# Altium schematic symbol library Connector.SchLib: 400 symbols (part 3 of 5)
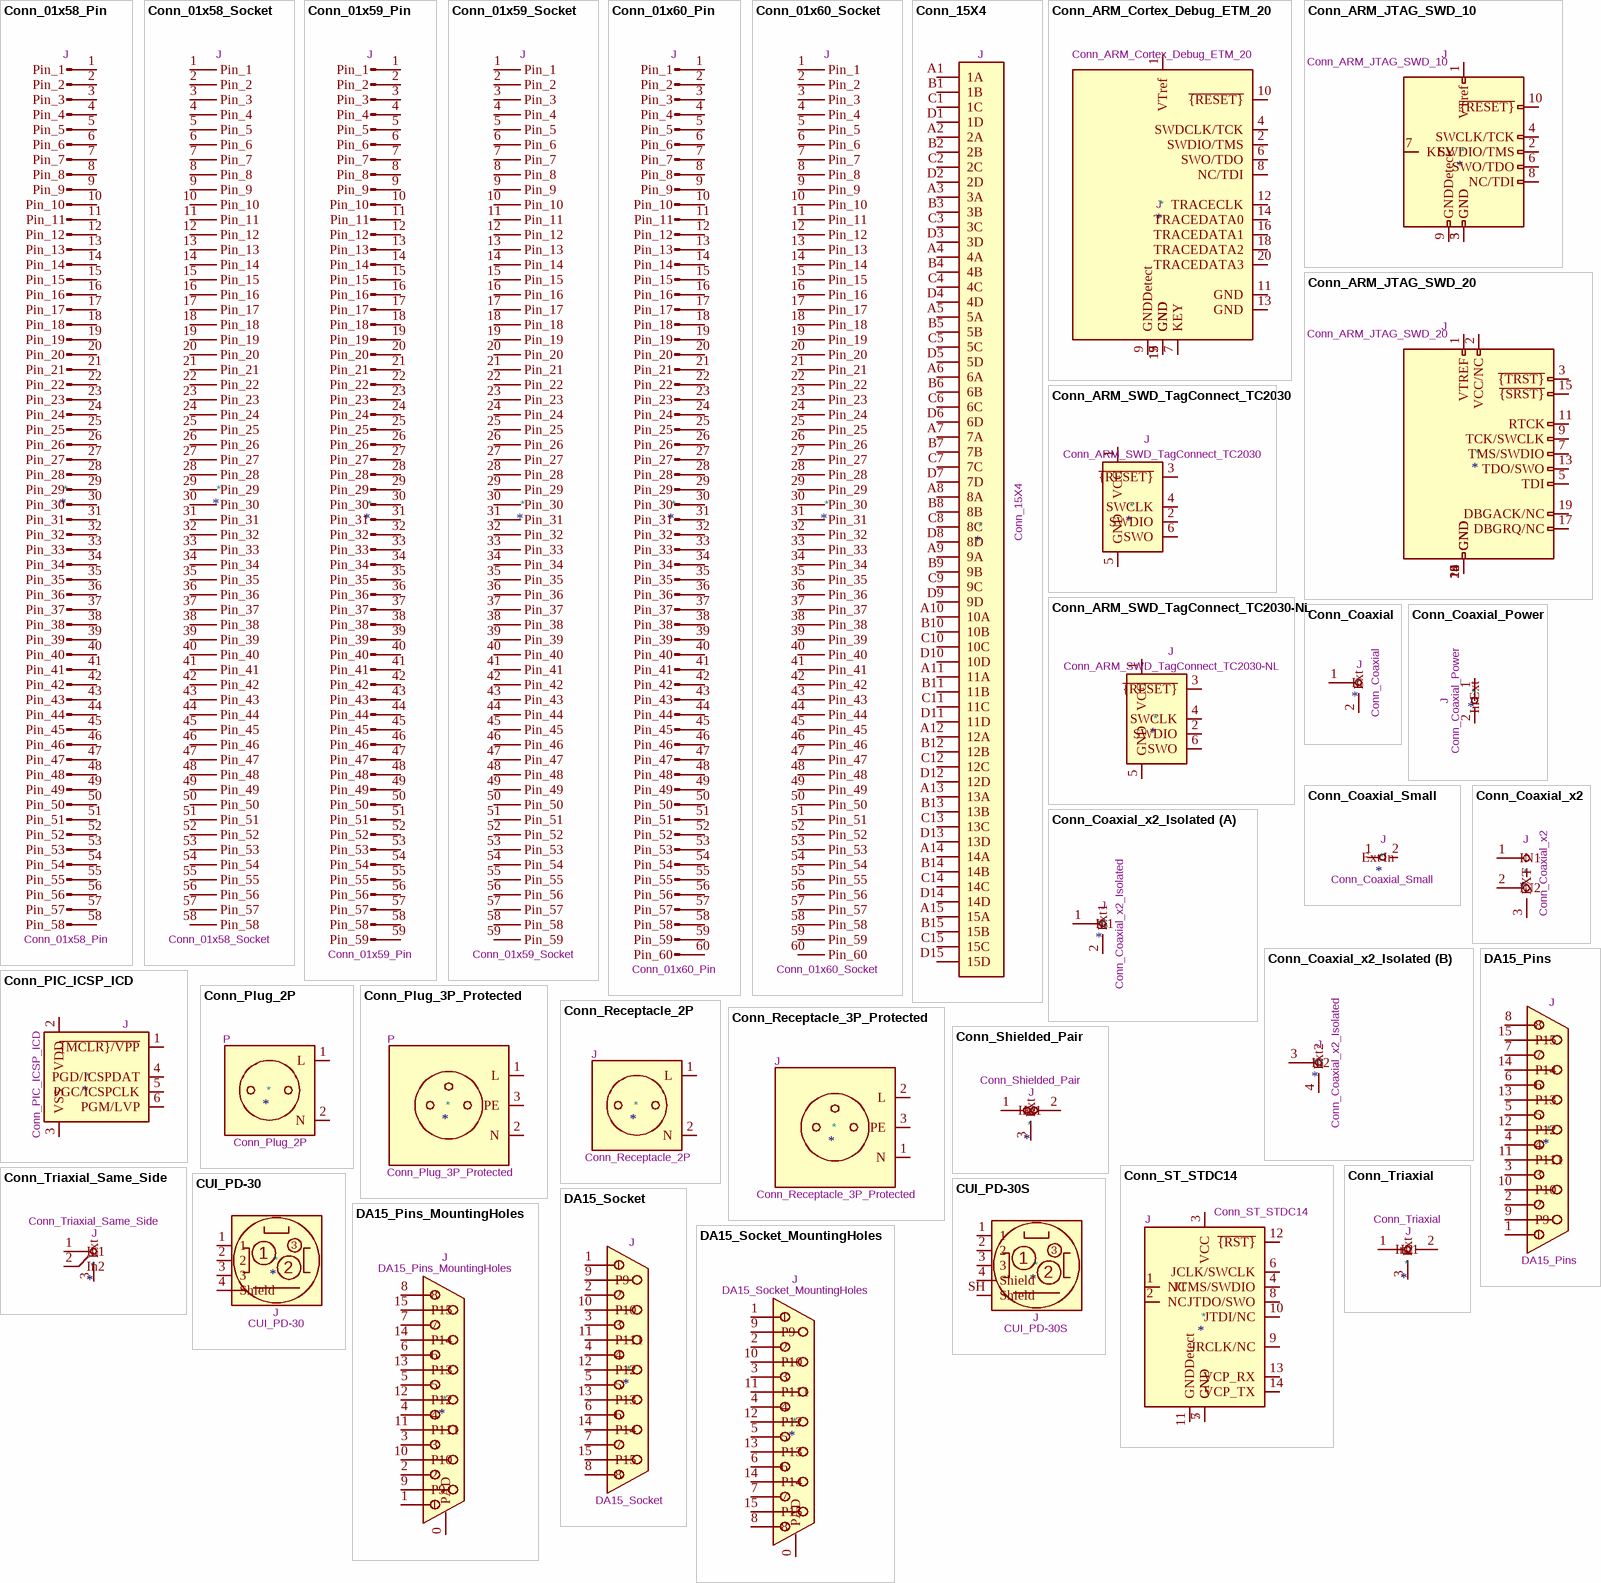
[diagram p19: symbols Conn_01x58_Pin to DA15_Socket_MountingHoles]

## Conn_ARM_JTAG_SWD_10
designator *  value Conn_ARM_JTAG_SWD_10  Reference: J
Cortex Debug Connector, standard ARM Cortex-M SWD and JTAG interface; ki_keywords: Cortex Debug Connector ARM SWD JTAG; ki_fp_filters: PinHeader?2x05?P1.27mm*; Datasheet: http://infocenter.arm.com/help/topic/com.arm.doc.ddi0314h/DDI0314H_coresight_components_trm.pdf; Description_: Cortex Debug Connector, standard ARM Cortex-M SWD and JTAG interface
pins: 1 VTref, 2 SWDIO/TMS, 3 GND, 4 SWCLK/TCK, 5 GND, 6 SWO/TDO, 7 KEY, 8 NC/TDI, 9 GNDDetect, 10 ~{{RESET}}

## Conn_ARM_JTAG_SWD_20
designator *  value Conn_ARM_JTAG_SWD_20  Reference: J
Standard IDC20 Pinheader Connector, ARM legacy JTAG and SWD interface; ki_keywords: IDC20 Pinheader Pins Connector ARM JTAG SWD; ki_fp_filters: IDC*Header*P2.54mm* PinHeader*2x10*P2.54mm*; Datasheet: http://infocenter.arm.com/help/topic/com.arm.doc.dui0499b/DUI0499B_system_design_reference.pdf; Description_: Standard IDC20 Pinheader Connector, ARM legacy JTAG and SWD interface
pins: 1 VTREF, 2 VCC/NC, 3 ~{{TRST}}, 4 GND, 5 TDI, 6 GND, 7 TMS/SWDIO, 8 GND, 9 TCK/SWCLK, 10 GND, 11 RTCK, 12 GND, 13 TDO/SWO, 14 GND, 15 ~{{SRST}}, 16 GND, 17 DBGRQ/NC, 18 GND, 19 DBGACK/NC, 20 GND

## Conn_ARM_SWD_TagConnect_TC2030
designator *  value Conn_ARM_SWD_TagConnect_TC2030  Reference: J
Tag-Connect ARM Cortex SWD JTAG connector, 6 pin; ki_keywords: Cortex Debug Connector ARM SWD JTAG; ki_fp_filters: *TC2030*; Footprint: Connector:Tag-Connect_TC2030-IDC-FP_2x03_P1.27mm_Vertical; Datasheet: https://www.tag-connect.com/wp-content/uploads/bsk-pdf-manager/TC2030-CTX_1.pdf; Description_: Tag-Connect ARM Cortex SWD JTAG connector, 6 pin
pins: 1 VCC, 2 SWDIO, 3 ~{{RESET}}, 4 SWCLK, 5 GND, 6 SWO

## Conn_ARM_SWD_TagConnect_TC2030-NL
designator *  value Conn_ARM_SWD_TagConnect_TC2030-NL  Reference: J
Tag-Connect ARM Cortex SWD JTAG connector, 6 pin, no legs; ki_keywords: Cortex Debug Connector ARM SWD JTAG; ki_fp_filters: *TC2030*; Footprint: Connector:Tag-Connect_TC2030-IDC-NL_2x03_P1.27mm_Vertical; Datasheet: https://www.tag-connect.com/wp-content/uploads/bsk-pdf-manager/TC2030-CTX_1.pdf; Description_: Tag-Connect ARM Cortex SWD JTAG connector, 6 pin, no legs
pins: 1 VCC, 2 SWDIO, 3 ~{{RESET}}, 4 SWCLK, 5 GND, 6 SWO

## Conn_Coaxial
designator *  value Conn_Coaxial  Reference: J
coaxial connector (BNC, SMA, SMB, SMC, Cinch/RCA, LEMO, ...); ki_keywords: BNC SMA SMB SMC LEMO coaxial connector CINCH RCA MCX MMCX U.FL UMRF; ki_fp_filters: *BNC* *SMA* *SMB* *SMC* *Cinch* *LEMO* *UMRF* *MCX* *U.FL*; Datasheet: ~; Description_: coaxial connector (BNC, SMA, SMB, SMC, Cinch/RCA, LEMO, ...)
pins: 1 In, 2 Ext

## Conn_Coaxial_Power
designator *  value Conn_Coaxial_Power  Reference: J
coaxial connector (BNC, SMA, SMB, SMC, Cinch/RCA, LEMO, ...); ki_keywords: BNC SMA SMB SMC LEMO coaxial connector CINCH RCA; ki_fp_filters: *BNC* *SMA* *SMB* *SMC* *Cinch* *LEMO*; Datasheet: ~; Description_: coaxial connector (BNC, SMA, SMB, SMC, Cinch/RCA, LEMO, ...)
pins: 1 In, 2 Ext

## Conn_Coaxial_Small
designator *  value Conn_Coaxial_Small  Reference: J
small coaxial connector (BNC, SMA, SMB, SMC, Cinch/RCA, LEMO, ...); ki_keywords: BNC SMA SMB SMC LEMO coaxial connector CINCH RCA MCX MMCX U.FL UMRF; ki_fp_filters: *BNC* *SMA* *SMB* *SMC* *Cinch* *LEMO* *UMRF* *MCX* *U.FL*; Datasheet: ~; Description_: small coaxial connector (BNC, SMA, SMB, SMC, Cinch/RCA, LEMO, ...)
pins: 1 In, 2 Ext

## Conn_Coaxial_x2
designator *  value Conn_Coaxial_x2  Reference: J
double coaxial connector (BNC, SMA, SMB, SMC, Cinch/RCA, LEMO, ...); ki_keywords: BNC SMA SMB SMC LEMO coaxial connector CINCH RCA; ki_fp_filters: *BNC* *SMA* *SMB* *SMC* *Cinch* *LEMO*; Datasheet: ~; Description_: double coaxial connector (BNC, SMA, SMB, SMC, Cinch/RCA, LEMO, ...)
pins: 1 IN1, 2 IN2, 3 EXT

## Conn_Coaxial_x2_Isolated
designator *  value Conn_Coaxial_x2_Isolated  Reference: J
coaxial connector (BNC, SMA, SMB, SMC, Cinch/RCA, LEMO, ...); ki_keywords: BNC SMA SMB SMC LEMO coaxial connector CINCH RCA; ki_fp_filters: *BNC* *SMA* *SMB* *SMC* *Cinch* *LEMO*; Datasheet: ~; Description_: coaxial connector (BNC, SMA, SMB, SMC, Cinch/RCA, LEMO, ...)
part A pins: 1 In1, 2 Ext1
part B pins: 3 In2, 4 Ext2

## Conn_PIC_ICSP_ICD
designator *  value Conn_PIC_ICSP_ICD  Reference: J
Microchip PIC In-Circuit Serial Programming/Debugging (ICSP/ICD) connector; ki_keywords: icsp icd pic microchip; ki_fp_filters: PinHeader*1x06*P2.54mm* PinSocket*1x06*P2.54mm*; Datasheet: http://ww1.microchip.com/downloads/en/devicedoc/30277d.pdf; Description_: Microchip PIC In-Circuit Serial Programming/Debugging (ICSP/ICD) connector
pins: 1 ~{{MCLR}/VPP}, 2 VDD, 3 VSS, 4 PGD/ICSPDAT, 5 PGC/ICSPCLK, 6 PGM/LVP

## Conn_Plug_2P
designator *  value Conn_Plug_2P  Reference: P
2 Pins non-protected generic plug; ki_keywords: 2P mains plug wall; ki_fp_filters: CEE*7/2* CEE*7/16* CEE*7/17* NEMA*1?15* SN?441011*Type?11*; Datasheet: ~; Description_: 2 Pins non-protected generic plug
pins: 1 L, 2 N

## Conn_Plug_3P_Protected
designator *  value Conn_Plug_3P_Protected  Reference: P
3 Pins protected generic plug; ki_keywords: 3P mains plug protected wall; ki_fp_filters: CEE*7/2* CEE*7/16* CEE*7/17* NEMA*1?15* SN?441011?Type*11*; Datasheet: ~; Description_: 3 Pins protected generic plug
pins: 1 L, 2 N, 3 PE

## Conn_Receptacle_2P
designator *  value Conn_Receptacle_2P  Reference: J
2 Pins non-protected generic plug; ki_keywords: 2P mains receptacle wall; ki_fp_filters: CEE*7/2* CEE*7/16* CEE*7/17* NEMA*1?15* SN?441011*Type?11*; Datasheet: ~; Description_: 2 Pins non-protected generic plug
pins: 1 L, 2 N

## Conn_Receptacle_3P_Protected
designator *  value Conn_Receptacle_3P_Protected  Reference: J
3 Pins protected generic receptacle; ki_keywords: 3P mains receptacle protected wall; ki_fp_filters: CEE*7/2* CEE*7/16* CEE*7/17* NEMA*1?15* SN?441011?Type*11*; Datasheet: ~; Description_: 3 Pins protected generic receptacle
pins: 1 N, 2 L, 3 PE

## Conn_Shielded_Pair
designator *  value Conn_Shielded_Pair  Reference: J
triaxial connector (LEMO 00.302, ...); ki_keywords: LEMO triaxial connector differential LVDS Conn_Triaxial; ki_fp_filters: *LEMO*; Datasheet: ~; Description_: triaxial connector (LEMO 00.302, ...)
pins: 1 In1, 2 In2, 3 Ext

## Conn_ST_STDC14
designator *  value Conn_ST_STDC14  Reference: J
ST Debug Connector, standard ARM Cortex-M SWD and JTAG interface plus UART; ki_keywords: ST STM32 Cortex Debug Connector ARM SWD JTAG; ki_fp_filters: PinHeader?2x07?P1.27mm*; Datasheet: https://www.st.com/content/ccc/resource/technical/document/user_manual/group1/99/49/91/b6/b2/3a/46/e5/DM00526767/files/DM00526767.pdf/jcr:content/translations/en.DM00526767.pdf; Description_: ST Debug Connector, standard ARM Cortex-M SWD and JTAG interface plus UART
pins: 1 NC, 2 NC, 3 VCC, 4 JTMS/SWDIO, 5 GND, 6 JCLK/SWCLK, 7 GND, 8 JTDO/SWO, 9 JRCLK/NC, 10 JTDI/NC, 11 GNDDetect, 12 ~{{RST}}, 13 VCP_RX, 14 VCP_TX

## Conn_Triaxial
designator *  value Conn_Triaxial  Reference: J
triaxial connector (LEMO 00.302, ...); ki_keywords: LEMO triaxial connector differential LVDS; ki_fp_filters: *LEMO*; Datasheet: ~; Description_: triaxial connector (LEMO 00.302, ...)
pins: 1 In1, 2 In2, 3 Ext

## Conn_Triaxial_Same_Side
designator *  value Conn_Triaxial_Same_Side  Reference: J
triaxial connector (LEMO 00.302, ...); ki_keywords: LEMO triaxial connector differential LVDS; ki_fp_filters: *LEMO*; Datasheet: ~; Description_: triaxial connector (LEMO 00.302, ...)
pins: 1 In1, 2 In2, 3 Ext

## CUI_PD-30
designator *  value CUI_PD-30  Reference: J
3 pin connector, PD-30; ki_keywords: connector 3-pin PD-30 power DIN; ki_fp_filters: CUI*PD*30*; Footprint: Connector:CUI_PD-30; Datasheet: http://www.cui.com/product/resource/pd-30.pdf; Description_: 3 pin connector, PD-30
pins: 1, 2, 3, 4 Shield

## CUI_PD-30S
designator *  value CUI_PD-30S  Reference: J
3 pin connector, PD-30S; ki_keywords: connector 3-pin PD-30S power DIN; ki_fp_filters: CUI*PD*30S*; Footprint: Connector:CUI_PD-30S; Datasheet: http://www.cui.com/product/resource/pd-30.pdf; Description_: 3 pin connector, PD-30S
pins: 1, 2, 3, 4 Shield, SH Shield

## DA15_Pins
designator *  value DA15_Pins  Reference: J
15-pin D-SUB connector, pins (male) (low-density/2 columns); ki_keywords: DSUB; ki_fp_filters: DSUB*Pins*; Datasheet: ~; Description_: 15-pin D-SUB connector, pins (male) (low-density/2 columns)
pins: 1, 2, 3, 4, 5, 6, 7, 8, 9 P9, 10 P10, 11 P111, 12 P12, 13 P13, 14 P14, 15 P15

## DA15_Pins_MountingHoles
designator *  value DA15_Pins_MountingHoles  Reference: J
15-pin D-SUB connector, pins (male) (low-density/2 columns), Mounting Hole; ki_keywords: DSUB; ki_fp_filters: DSUB*Pins*; Datasheet: ~; Description_: 15-pin D-SUB connector, pins (male) (low-density/2 columns), Mounting Hole
pins: 0 PAD, 1, 2, 3, 4, 5, 6, 7, 8, 9 P9, 10 P10, 11 P111, 12 P12, 13 P13, 14 P14, 15 P15

## DA15_Socket
designator *  value DA15_Socket  Reference: J
15-pin D-SUB connector, socket (female) (low-density/2 columns); ki_keywords: DSUB; ki_fp_filters: DSUB*Socket*; Datasheet: ~; Description_: 15-pin D-SUB connector, socket (female) (low-density/2 columns)
pins: 1, 2, 3, 4, 5, 6, 7, 8, 9 P9, 10 P10, 11 P111, 12 P12, 13 P13, 14 P14, 15 P15

## DA15_Socket_MountingHoles
designator *  value DA15_Socket_MountingHoles  Reference: J
15-pin D-SUB connector, socket (female) (low-density/2 columns), Mounting Hole; ki_keywords: DSUB; ki_fp_filters: DSUB*Socket*; Datasheet: ~; Description_: 15-pin D-SUB connector, socket (female) (low-density/2 columns), Mounting Hole
pins: 0 PAD, 1, 2, 3, 4, 5, 6, 7, 8, 9 P9, 10 P10, 11 P111, 12 P12, 13 P13, 14 P14, 15 P15

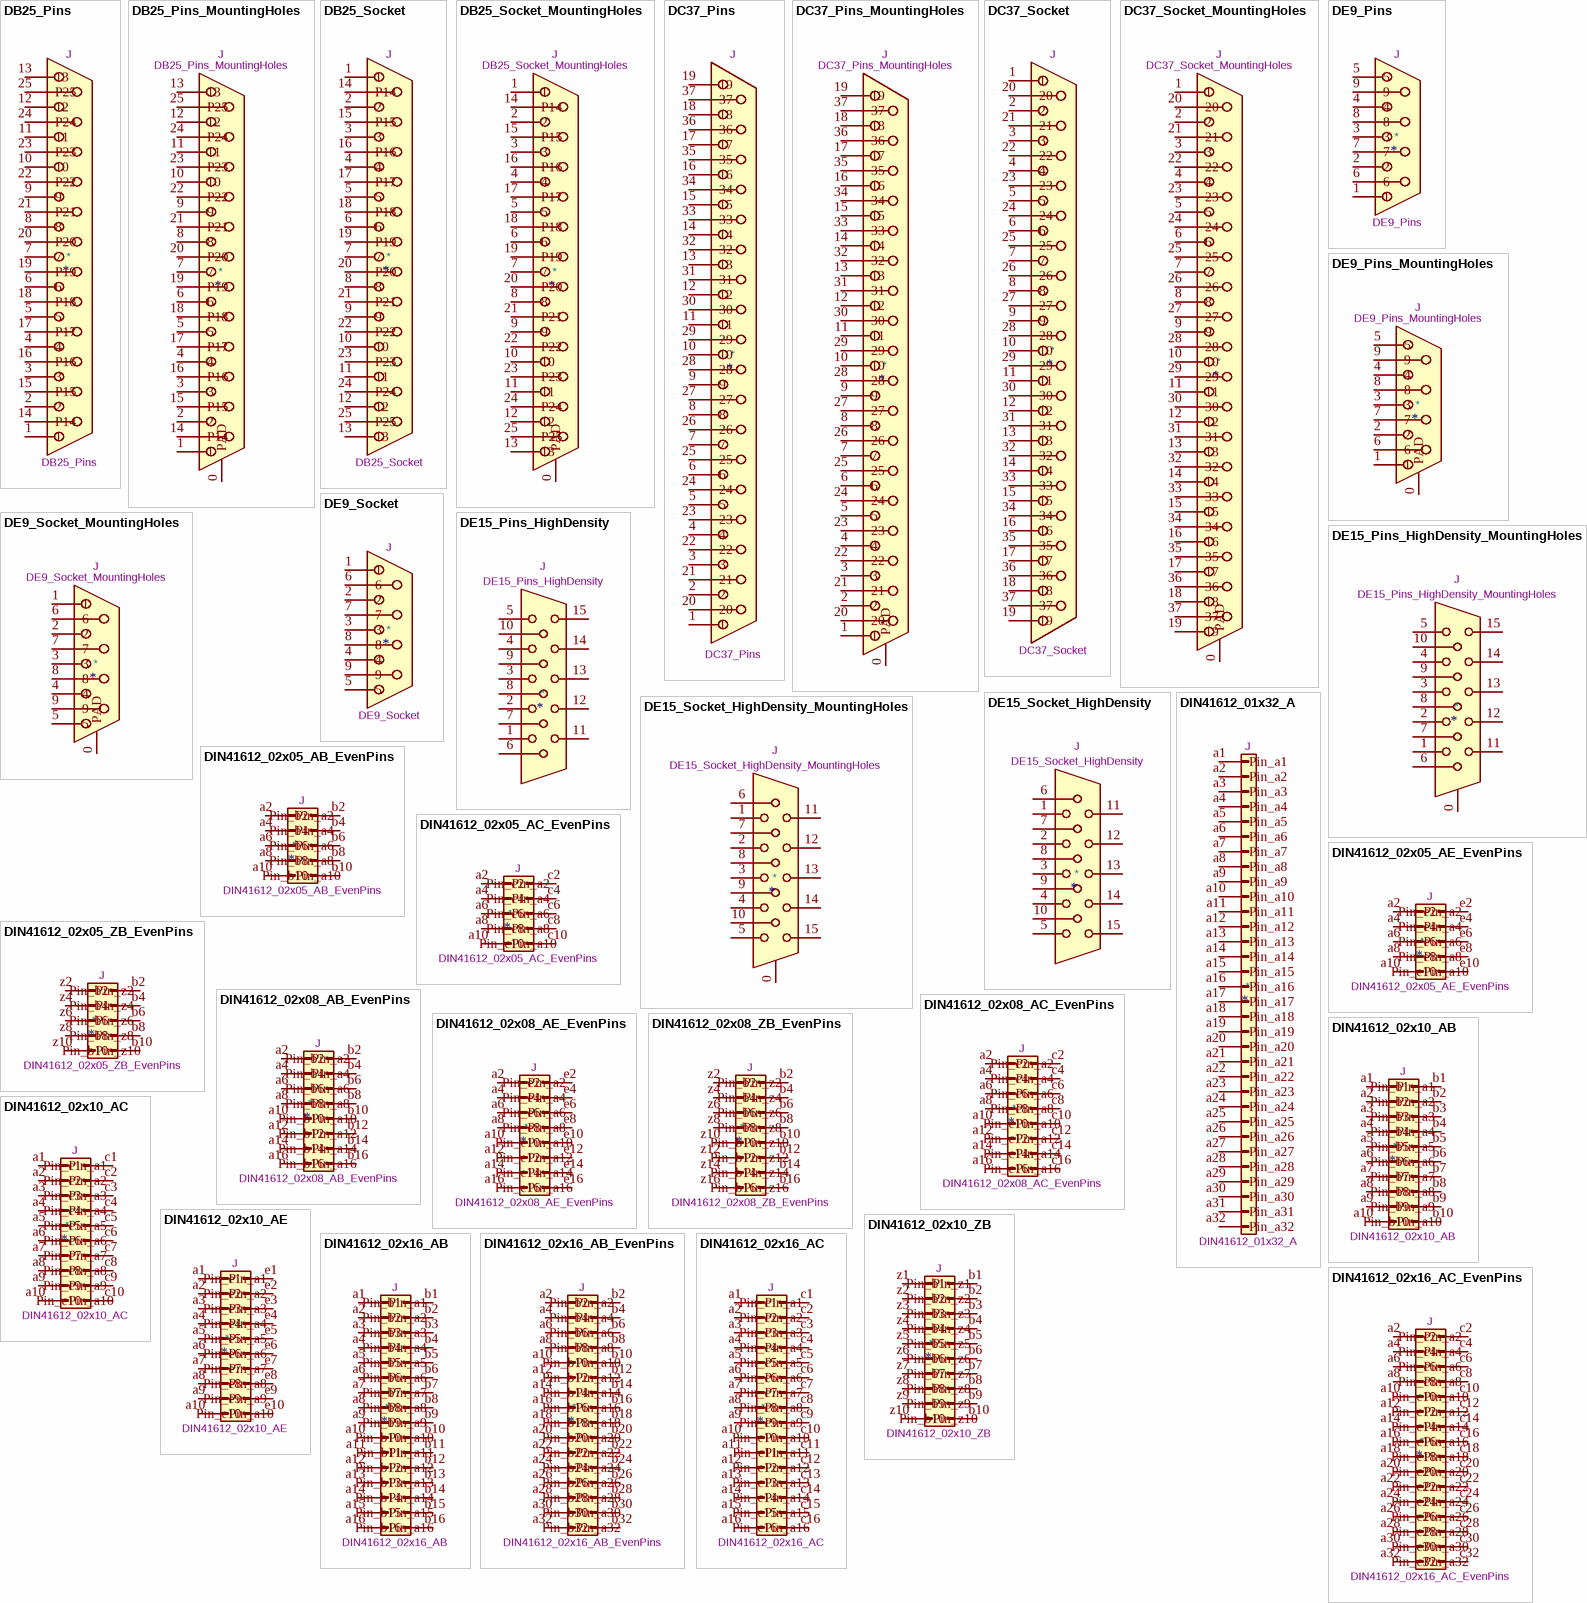
[diagram p9: symbols DB25_Pins to DIN41612_02x16_AC_EvenPins]

## DB25_Pins
designator *  value DB25_Pins  Reference: J
25-pin D-SUB connector, pins (male); ki_keywords: DSUB; ki_fp_filters: DSUB*Pins*; Datasheet: ~; Description_: 25-pin D-SUB connector, pins (male)
pins: 1, 2, 3, 4, 5, 6, 7, 8, 9, 10, 11, 12, 13, 14 P14, 15 P15, 16 P16, 17 P17, 18 P18, 19 P19, 20 P20, 21 P21, 22 P22, 23 P23, 24 P24, 25 P25

## DB25_Pins_MountingHoles
designator *  value DB25_Pins_MountingHoles  Reference: J
25-pin D-SUB connector, pins (male), Mounting Hole; ki_keywords: DSUB; ki_fp_filters: DSUB*Pins*; Datasheet: ~; Description_: 25-pin D-SUB connector, pins (male), Mounting Hole
pins: 0 PAD, 1, 2, 3, 4, 5, 6, 7, 8, 9, 10, 11, 12, 13, 14 P14, 15 P15, 16 P16, 17 P17, 18 P18, 19 P19, 20 P20, 21 P21, 22 P22, 23 P23, 24 P24, 25 P25

## DB25_Socket
designator *  value DB25_Socket  Reference: J
25-pin D-SUB connector, socket (female); ki_keywords: DSUB; ki_fp_filters: DSUB*Socket*; Datasheet: ~; Description_: 25-pin D-SUB connector, socket (female)
pins: 1, 2, 3, 4, 5, 6, 7, 8, 9, 10, 11, 12, 13, 14 P14, 15 P15, 16 P16, 17 P17, 18 P18, 19 P19, 20 P20, 21 P21, 22 P22, 23 P23, 24 P24, 25 P25

## DB25_Socket_MountingHoles
designator *  value DB25_Socket_MountingHoles  Reference: J
25-pin D-SUB connector, socket (female), Mounting Hole; ki_keywords: DSUB; ki_fp_filters: DSUB*Socket*; Datasheet: ~; Description_: 25-pin D-SUB connector, socket (female), Mounting Hole
pins: 0 PAD, 1, 2, 3, 4, 5, 6, 7, 8, 9, 10, 11, 12, 13, 14 P14, 15 P15, 16 P16, 17 P17, 18 P18, 19 P19, 20 P20, 21 P21, 22 P22, 23 P23, 24 P24, 25 P25

## DC37_Pins
designator *  value DC37_Pins  Reference: J
37-pin D-SUB connector, pins (male); ki_keywords: DSUB; ki_fp_filters: DSUB*Pins*; Datasheet: ~; Description_: 37-pin D-SUB connector, pins (male)
pins: 1, 2, 3, 4, 5, 6, 7, 8, 9, 10, 11, 12, 13, 14, 15, 16, 17, 18, 19, 20, 21, 22, 23, 24, 25, 26, 27, 28, 29, 30, 31, 32, 33, 34, 35, 36, 37

## DC37_Pins_MountingHoles
designator *  value DC37_Pins_MountingHoles  Reference: J
37-pin D-SUB connector, pins (male), Mounting Hole; ki_keywords: DSUB; ki_fp_filters: DSUB*Pins*; Datasheet: ~; Description_: 37-pin D-SUB connector, pins (male), Mounting Hole
pins: 0 PAD, 1, 2, 3, 4, 5, 6, 7, 8, 9, 10, 11, 12, 13, 14, 15, 16, 17, 18, 19, 20, 21, 22, 23, 24, 25, 26, 27, 28, 29, 30, 31, 32, 33, 34, 35, 36, 37

## DC37_Socket
designator *  value DC37_Socket  Reference: J
37-pin D-SUB connector, socket (female); ki_keywords: DSUB; ki_fp_filters: DSUB*Socket*; Datasheet: ~; Description_: 37-pin D-SUB connector, socket (female)
pins: 1, 2, 3, 4, 5, 6, 7, 8, 9, 10, 11, 12, 13, 14, 15, 16, 17, 18, 19, 20, 21, 22, 23, 24, 25, 26, 27, 28, 29, 30, 31, 32, 33, 34, 35, 36, 37

## DC37_Socket_MountingHoles
designator *  value DC37_Socket_MountingHoles  Reference: J
37-pin D-SUB connector, socket (female), Mounting Hole; ki_keywords: DSUB; ki_fp_filters: DSUB*Socket*; Datasheet: ~; Description_: 37-pin D-SUB connector, socket (female), Mounting Hole
pins: 0 PAD, 1, 2, 3, 4, 5, 6, 7, 8, 9, 10, 11, 12, 13, 14, 15, 16, 17, 18, 19, 20, 21, 22, 23, 24, 25, 26, 27, 28, 29, 30, 31, 32, 33, 34, 35, 36, 37

## DE9_Pins
designator *  value DE9_Pins  Reference: J
9-pin D-SUB connector, pins (male); ki_keywords: DSUB DB9; ki_fp_filters: DSUB*Pins*; Datasheet: ~; Description_: 9-pin D-SUB connector, pins (male)
pins: 1, 2, 3, 4, 5, 6, 7, 8, 9

## DE9_Pins_MountingHoles
designator *  value DE9_Pins_MountingHoles  Reference: J
9-pin D-SUB connector, pins (male), Mounting Hole; ki_keywords: DSUB DB9; ki_fp_filters: DSUB*Pins*; Datasheet: ~; Description_: 9-pin D-SUB connector, pins (male), Mounting Hole
pins: 0 PAD, 1, 2, 3, 4, 5, 6, 7, 8, 9

## DE9_Socket
designator *  value DE9_Socket  Reference: J
9-pin D-SUB connector, socket (female); ki_keywords: DSUB DB9; ki_fp_filters: DSUB*Socket*; Datasheet: ~; Description_: 9-pin D-SUB connector, socket (female)
pins: 1, 2, 3, 4, 5, 6, 7, 8, 9

## DE9_Socket_MountingHoles
designator *  value DE9_Socket_MountingHoles  Reference: J
9-pin D-SUB connector, socket (female), Mounting Hole; ki_keywords: DSUB DB9; ki_fp_filters: DSUB*Socket*; Datasheet: ~; Description_: 9-pin D-SUB connector, socket (female), Mounting Hole
pins: 0 PAD, 1, 2, 3, 4, 5, 6, 7, 8, 9

## DE15_Pins_HighDensity
designator *  value DE15_Pins_HighDensity  Reference: J
15-pin male plug socket D-SUB connector, High density (3 columns), Triple Row, Generic, VGA-connector; ki_keywords: DSUB VGA; ki_fp_filters: DSUB*Pins*; Datasheet: ~; Description_: 15-pin male plug socket D-SUB connector, High density (3 columns), Triple Row, Generic, VGA-connector
pins: 1, 2, 3, 4, 5, 6, 7, 8, 9, 10, 11, 12, 13, 14, 15

## DE15_Pins_HighDensity_MountingHoles
designator *  value DE15_Pins_HighDensity_MountingHoles  Reference: J
15-pin male plug socket D-SUB connector, High density (3 columns), Triple Row, Generic, VGA-connector, Mounting Hole; ki_keywords: DSUB VGA; ki_fp_filters: DSUB*Pins*; Datasheet: ~; Description_: 15-pin male plug socket D-SUB connector, High density (3 columns), Triple Row, Generic, VGA-connector, Mounting Hole
pins: 0, 1, 2, 3, 4, 5, 6, 7, 8, 9, 10, 11, 12, 13, 14, 15

## DE15_Socket_HighDensity
designator *  value DE15_Socket_HighDensity  Reference: J
15-pin D-SUB connector, socket (female), High density (3 columns), Triple Row, Generic, VGA-connector; ki_keywords: DSUB VGA; ki_fp_filters: DSUB*Socket*; Datasheet: ~; Description_: 15-pin D-SUB connector, socket (female), High density (3 columns), Triple Row, Generic, VGA-connector
pins: 1, 2, 3, 4, 5, 6, 7, 8, 9, 10, 11, 12, 13, 14, 15

## DE15_Socket_HighDensity_MountingHoles
designator *  value DE15_Socket_HighDensity_MountingHoles  Reference: J
15-pin D-SUB connector, socket (female), High density (3 columns), Triple Row, Generic, VGA-connector, Mounting Hole; ki_keywords: DSUB VGA; ki_fp_filters: DSUB*Socket*; Datasheet: ~; Description_: 15-pin D-SUB connector, socket (female), High density (3 columns), Triple Row, Generic, VGA-connector, Mounting Hole
pins: 0, 1, 2, 3, 4, 5, 6, 7, 8, 9, 10, 11, 12, 13, 14, 15

## DIN41612_01x32_A
designator *  value DIN41612_01x32_A  Reference: J
DIN41612 connector, single row (A), 01x32, script generated (kicad-library-utils/schlib/autogen/connector/); ki_fp_filters: DIN41612*1x*; Datasheet: ~; Description_: DIN41612 connector, single row (A), 01x32, script generated (kicad-library-utils/schlib/autogen/connector/); ki_keywords: connector
pins: a1 Pin_a1, a2 Pin_a2, a3 Pin_a3, a4 Pin_a4, a5 Pin_a5, a6 Pin_a6, a7 Pin_a7, a8 Pin_a8, a9 Pin_a9, a10 Pin_a10, a11 Pin_a11, a12 Pin_a12, a13 Pin_a13, a14 Pin_a14, a15 Pin_a15, a16 Pin_a16, a17 Pin_a17, a18 Pin_a18, a19 Pin_a19, a20 Pin_a20, a21 Pin_a21, a22 Pin_a22, a23 Pin_a23, a24 Pin_a24, a25 Pin_a25, a26 Pin_a26, a27 Pin_a27, a28 Pin_a28, a29 Pin_a29, a30 Pin_a30, a31 Pin_a31, a32 Pin_a32

## DIN41612_02x05_AB_EvenPins
designator *  value DIN41612_02x05_AB_EvenPins  Reference: J
DIN41612 connector, double row (AB) even pins only, 02x05, script generated (kicad-library-utils/schlib/autogen/connector/); ki_fp_filters: DIN41612*2x*; Datasheet: ~; Description_: DIN41612 connector, double row (AB) even pins only, 02x05, script generated (kicad-library-utils/schlib/autogen/connector/); ki_keywords: connector
pins: a2 Pin_a2, a4 Pin_a4, a6 Pin_a6, a8 Pin_a8, a10 Pin_a10, b2 Pin_b2, b4 Pin_b4, b6 Pin_b6, b8 Pin_b8, b10 Pin_b10

## DIN41612_02x05_AC_EvenPins
designator *  value DIN41612_02x05_AC_EvenPins  Reference: J
DIN41612 connector, double row (AC) even pins only, 02x05, script generated (kicad-library-utils/schlib/autogen/connector/); ki_fp_filters: DIN41612*2x*; Datasheet: ~; Description_: DIN41612 connector, double row (AC) even pins only, 02x05, script generated (kicad-library-utils/schlib/autogen/connector/); ki_keywords: connector
pins: a2 Pin_a2, a4 Pin_a4, a6 Pin_a6, a8 Pin_a8, a10 Pin_a10, c2 Pin_c2, c4 Pin_c4, c6 Pin_c6, c8 Pin_c8, c10 Pin_c10

## DIN41612_02x05_AE_EvenPins
designator *  value DIN41612_02x05_AE_EvenPins  Reference: J
DIN41612 connector, double row (AE) even pins only, 02x05, script generated (kicad-library-utils/schlib/autogen/connector/); ki_fp_filters: DIN41612*2x*; Datasheet: ~; Description_: DIN41612 connector, double row (AE) even pins only, 02x05, script generated (kicad-library-utils/schlib/autogen/connector/); ki_keywords: connector
pins: a2 Pin_a2, a4 Pin_a4, a6 Pin_a6, a8 Pin_a8, a10 Pin_a10, e2 Pin_e2, e4 Pin_e4, e6 Pin_e6, e8 Pin_e8, e10 Pin_e10

## DIN41612_02x05_ZB_EvenPins
designator *  value DIN41612_02x05_ZB_EvenPins  Reference: J
DIN41612 connector, double row (ZB) even pins only, 02x05, script generated (kicad-library-utils/schlib/autogen/connector/); ki_fp_filters: DIN41612*2x*; Datasheet: ~; Description_: DIN41612 connector, double row (ZB) even pins only, 02x05, script generated (kicad-library-utils/schlib/autogen/connector/); ki_keywords: connector
pins: b2 Pin_b2, b4 Pin_b4, b6 Pin_b6, b8 Pin_b8, b10 Pin_b10, z2 Pin_z2, z4 Pin_z4, z6 Pin_z6, z8 Pin_z8, z10 Pin_z10

## DIN41612_02x08_AB_EvenPins
designator *  value DIN41612_02x08_AB_EvenPins  Reference: J
DIN41612 connector, double row (AB) even pins only, 02x08, script generated (kicad-library-utils/schlib/autogen/connector/); ki_fp_filters: DIN41612*2x*; Datasheet: ~; Description_: DIN41612 connector, double row (AB) even pins only, 02x08, script generated (kicad-library-utils/schlib/autogen/connector/); ki_keywords: connector
pins: a2 Pin_a2, a4 Pin_a4, a6 Pin_a6, a8 Pin_a8, a10 Pin_a10, a12 Pin_a12, a14 Pin_a14, a16 Pin_a16, b2 Pin_b2, b4 Pin_b4, b6 Pin_b6, b8 Pin_b8, b10 Pin_b10, b12 Pin_b12, b14 Pin_b14, b16 Pin_b16

## DIN41612_02x08_AC_EvenPins
designator *  value DIN41612_02x08_AC_EvenPins  Reference: J
DIN41612 connector, double row (AC) even pins only, 02x08, script generated (kicad-library-utils/schlib/autogen/connector/); ki_fp_filters: DIN41612*2x*; Datasheet: ~; Description_: DIN41612 connector, double row (AC) even pins only, 02x08, script generated (kicad-library-utils/schlib/autogen/connector/); ki_keywords: connector
pins: a2 Pin_a2, a4 Pin_a4, a6 Pin_a6, a8 Pin_a8, a10 Pin_a10, a12 Pin_a12, a14 Pin_a14, a16 Pin_a16, c2 Pin_c2, c4 Pin_c4, c6 Pin_c6, c8 Pin_c8, c10 Pin_c10, c12 Pin_c12, c14 Pin_c14, c16 Pin_c16

## DIN41612_02x08_AE_EvenPins
designator *  value DIN41612_02x08_AE_EvenPins  Reference: J
DIN41612 connector, double row (AE) even pins only, 02x08, script generated (kicad-library-utils/schlib/autogen/connector/); ki_fp_filters: DIN41612*2x*; Datasheet: ~; Description_: DIN41612 connector, double row (AE) even pins only, 02x08, script generated (kicad-library-utils/schlib/autogen/connector/); ki_keywords: connector
pins: a2 Pin_a2, a4 Pin_a4, a6 Pin_a6, a8 Pin_a8, a10 Pin_a10, a12 Pin_a12, a14 Pin_a14, a16 Pin_a16, e2 Pin_e2, e4 Pin_e4, e6 Pin_e6, e8 Pin_e8, e10 Pin_e10, e12 Pin_e12, e14 Pin_e14, e16 Pin_e16

## DIN41612_02x08_ZB_EvenPins
designator *  value DIN41612_02x08_ZB_EvenPins  Reference: J
DIN41612 connector, double row (ZB) even pins only, 02x08, script generated (kicad-library-utils/schlib/autogen/connector/); ki_fp_filters: DIN41612*2x*; Datasheet: ~; Description_: DIN41612 connector, double row (ZB) even pins only, 02x08, script generated (kicad-library-utils/schlib/autogen/connector/); ki_keywords: connector
pins: b2 Pin_b2, b4 Pin_b4, b6 Pin_b6, b8 Pin_b8, b10 Pin_b10, b12 Pin_b12, b14 Pin_b14, b16 Pin_b16, z2 Pin_z2, z4 Pin_z4, z6 Pin_z6, z8 Pin_z8, z10 Pin_z10, z12 Pin_z12, z14 Pin_z14, z16 Pin_z16

## DIN41612_02x10_AB
designator *  value DIN41612_02x10_AB  Reference: J
DIN41612 connector, double row (AB), 02x10, script generated (kicad-library-utils/schlib/autogen/connector/); ki_fp_filters: DIN41612*2x*; Datasheet: ~; Description_: DIN41612 connector, double row (AB), 02x10, script generated (kicad-library-utils/schlib/autogen/connector/); ki_keywords: connector
pins: a1 Pin_a1, a2 Pin_a2, a3 Pin_a3, a4 Pin_a4, a5 Pin_a5, a6 Pin_a6, a7 Pin_a7, a8 Pin_a8, a9 Pin_a9, a10 Pin_a10, b1 Pin_b1, b2 Pin_b2, b3 Pin_b3, b4 Pin_b4, b5 Pin_b5, b6 Pin_b6, b7 Pin_b7, b8 Pin_b8, b9 Pin_b9, b10 Pin_b10

## DIN41612_02x10_AC
designator *  value DIN41612_02x10_AC  Reference: J
DIN41612 connector, double row (AC), 02x10, script generated (kicad-library-utils/schlib/autogen/connector/); ki_fp_filters: DIN41612*2x*; Datasheet: ~; Description_: DIN41612 connector, double row (AC), 02x10, script generated (kicad-library-utils/schlib/autogen/connector/); ki_keywords: connector
pins: a1 Pin_a1, a2 Pin_a2, a3 Pin_a3, a4 Pin_a4, a5 Pin_a5, a6 Pin_a6, a7 Pin_a7, a8 Pin_a8, a9 Pin_a9, a10 Pin_a10, c1 Pin_c1, c2 Pin_c2, c3 Pin_c3, c4 Pin_c4, c5 Pin_c5, c6 Pin_c6, c7 Pin_c7, c8 Pin_c8, c9 Pin_c9, c10 Pin_c10

## DIN41612_02x10_AE
designator *  value DIN41612_02x10_AE  Reference: J
DIN41612 connector, double row (AE), 02x10, script generated (kicad-library-utils/schlib/autogen/connector/); ki_fp_filters: DIN41612*2x*; Datasheet: ~; Description_: DIN41612 connector, double row (AE), 02x10, script generated (kicad-library-utils/schlib/autogen/connector/); ki_keywords: connector
pins: a1 Pin_a1, a2 Pin_a2, a3 Pin_a3, a4 Pin_a4, a5 Pin_a5, a6 Pin_a6, a7 Pin_a7, a8 Pin_a8, a9 Pin_a9, a10 Pin_a10, e1 Pin_e1, e2 Pin_e2, e3 Pin_e3, e4 Pin_e4, e5 Pin_e5, e6 Pin_e6, e7 Pin_e7, e8 Pin_e8, e9 Pin_e9, e10 Pin_e10

## DIN41612_02x10_ZB
designator *  value DIN41612_02x10_ZB  Reference: J
DIN41612 connector, double row (ZB), 02x10, script generated (kicad-library-utils/schlib/autogen/connector/); ki_fp_filters: DIN41612*2x*; Datasheet: ~; Description_: DIN41612 connector, double row (ZB), 02x10, script generated (kicad-library-utils/schlib/autogen/connector/); ki_keywords: connector
pins: b1 Pin_b1, b2 Pin_b2, b3 Pin_b3, b4 Pin_b4, b5 Pin_b5, b6 Pin_b6, b7 Pin_b7, b8 Pin_b8, b9 Pin_b9, b10 Pin_b10, z1 Pin_z1, z2 Pin_z2, z3 Pin_z3, z4 Pin_z4, z5 Pin_z5, z6 Pin_z6, z7 Pin_z7, z8 Pin_z8, z9 Pin_z9, z10 Pin_z10

## DIN41612_02x16_AB
designator *  value DIN41612_02x16_AB  Reference: J
DIN41612 connector, double row (AB), 02x16, script generated (kicad-library-utils/schlib/autogen/connector/); ki_fp_filters: DIN41612*2x*; Datasheet: ~; Description_: DIN41612 connector, double row (AB), 02x16, script generated (kicad-library-utils/schlib/autogen/connector/); ki_keywords: connector
pins: a1 Pin_a1, a2 Pin_a2, a3 Pin_a3, a4 Pin_a4, a5 Pin_a5, a6 Pin_a6, a7 Pin_a7, a8 Pin_a8, a9 Pin_a9, a10 Pin_a10, a11 Pin_a11, a12 Pin_a12, a13 Pin_a13, a14 Pin_a14, a15 Pin_a15, a16 Pin_a16, b1 Pin_b1, b2 Pin_b2, b3 Pin_b3, b4 Pin_b4, b5 Pin_b5, b6 Pin_b6, b7 Pin_b7, b8 Pin_b8, b9 Pin_b9, b10 Pin_b10, b11 Pin_b11, b12 Pin_b12, b13 Pin_b13, b14 Pin_b14, b15 Pin_b15, b16 Pin_b16

## DIN41612_02x16_AB_EvenPins
designator *  value DIN41612_02x16_AB_EvenPins  Reference: J
DIN41612 connector, double row (AB) even pins only, 02x16, script generated (kicad-library-utils/schlib/autogen/connector/); ki_fp_filters: DIN41612*2x*; Datasheet: ~; Description_: DIN41612 connector, double row (AB) even pins only, 02x16, script generated (kicad-library-utils/schlib/autogen/connector/); ki_keywords: connector
pins: a2 Pin_a2, a4 Pin_a4, a6 Pin_a6, a8 Pin_a8, a10 Pin_a10, a12 Pin_a12, a14 Pin_a14, a16 Pin_a16, a18 Pin_a18, a20 Pin_a20, a22 Pin_a22, a24 Pin_a24, a26 Pin_a26, a28 Pin_a28, a30 Pin_a30, a32 Pin_a32, b2 Pin_b2, b4 Pin_b4, b6 Pin_b6, b8 Pin_b8, b10 Pin_b10, b12 Pin_b12, b14 Pin_b14, b16 Pin_b16, b18 Pin_b18, b20 Pin_b20, b22 Pin_b22, b24 Pin_b24, b26 Pin_b26, b28 Pin_b28, b30 Pin_b30, b32 Pin_b32

## DIN41612_02x16_AC
designator *  value DIN41612_02x16_AC  Reference: J
DIN41612 connector, double row (AC), 02x16, script generated (kicad-library-utils/schlib/autogen/connector/); ki_fp_filters: DIN41612*2x*; Datasheet: ~; Description_: DIN41612 connector, double row (AC), 02x16, script generated (kicad-library-utils/schlib/autogen/connector/); ki_keywords: connector
pins: a1 Pin_a1, a2 Pin_a2, a3 Pin_a3, a4 Pin_a4, a5 Pin_a5, a6 Pin_a6, a7 Pin_a7, a8 Pin_a8, a9 Pin_a9, a10 Pin_a10, a11 Pin_a11, a12 Pin_a12, a13 Pin_a13, a14 Pin_a14, a15 Pin_a15, a16 Pin_a16, c1 Pin_c1, c2 Pin_c2, c3 Pin_c3, c4 Pin_c4, c5 Pin_c5, c6 Pin_c6, c7 Pin_c7, c8 Pin_c8, c9 Pin_c9, c10 Pin_c10, c11 Pin_c11, c12 Pin_c12, c13 Pin_c13, c14 Pin_c14, c15 Pin_c15, c16 Pin_c16

## DIN41612_02x16_AC_EvenPins
designator *  value DIN41612_02x16_AC_EvenPins  Reference: J
DIN41612 connector, double row (AC) even pins only, 02x16, script generated (kicad-library-utils/schlib/autogen/connector/); ki_fp_filters: DIN41612*2x*; Datasheet: ~; Description_: DIN41612 connector, double row (AC) even pins only, 02x16, script generated (kicad-library-utils/schlib/autogen/connector/); ki_keywords: connector
pins: a2 Pin_a2, a4 Pin_a4, a6 Pin_a6, a8 Pin_a8, a10 Pin_a10, a12 Pin_a12, a14 Pin_a14, a16 Pin_a16, a18 Pin_a18, a20 Pin_a20, a22 Pin_a22, a24 Pin_a24, a26 Pin_a26, a28 Pin_a28, a30 Pin_a30, a32 Pin_a32, c2 Pin_c2, c4 Pin_c4, c6 Pin_c6, c8 Pin_c8, c10 Pin_c10, c12 Pin_c12, c14 Pin_c14, c16 Pin_c16, c18 Pin_c18, c20 Pin_c20, c22 Pin_c22, c24 Pin_c24, c26 Pin_c26, c28 Pin_c28, c30 Pin_c30, c32 Pin_c32

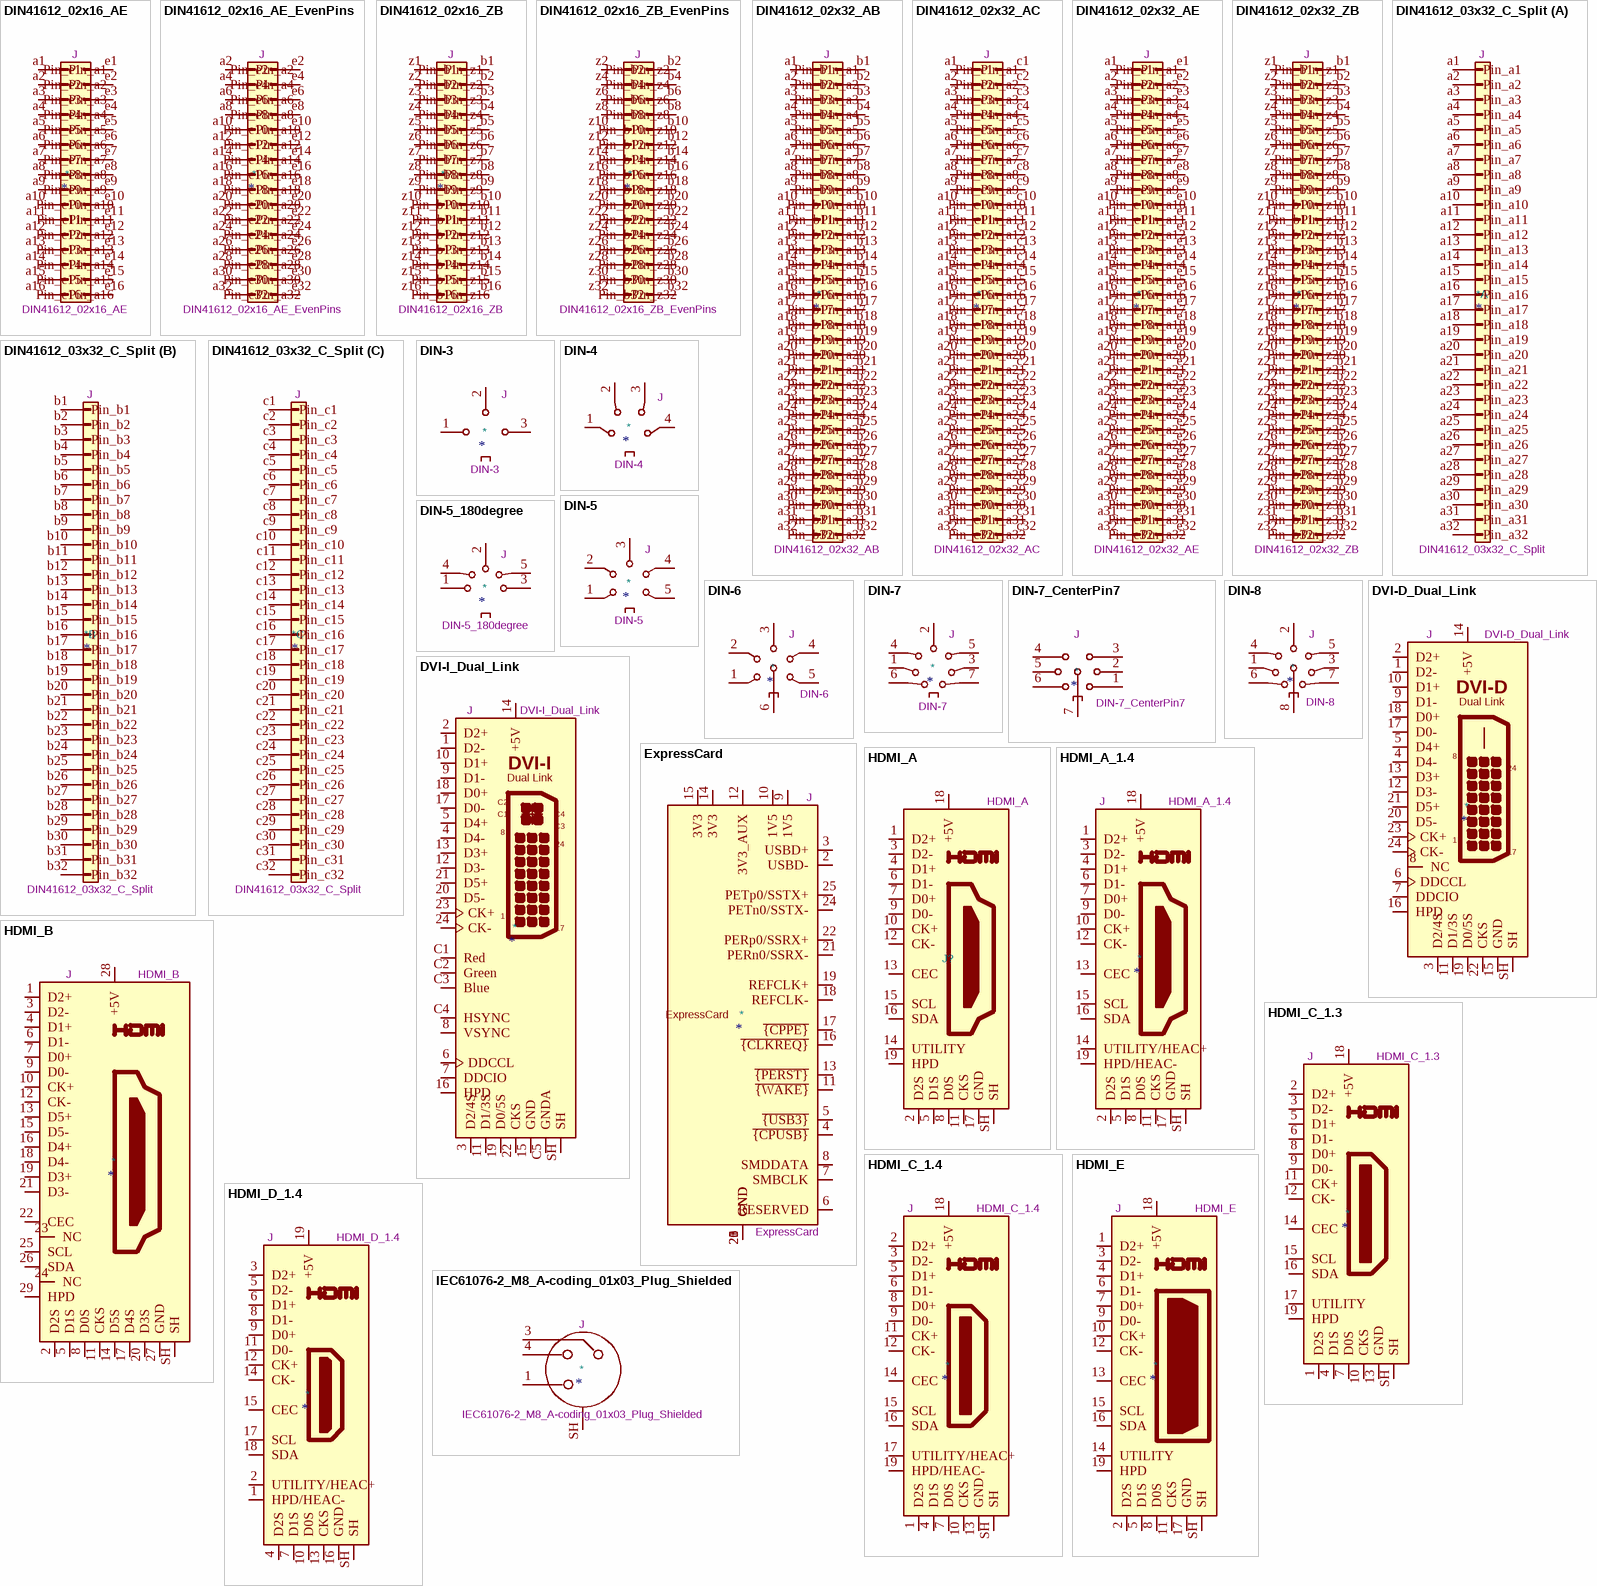
[diagram p10: symbols DIN41612_02x16_AE to IEC61076-2_M8_A-coding_01x03_Plug_Shielded]

## DIN41612_02x16_AE
designator *  value DIN41612_02x16_AE  Reference: J
DIN41612 connector, double row (AE), 02x16, script generated (kicad-library-utils/schlib/autogen/connector/); ki_fp_filters: DIN41612*2x*; Datasheet: ~; Description_: DIN41612 connector, double row (AE), 02x16, script generated (kicad-library-utils/schlib/autogen/connector/); ki_keywords: connector
pins: a1 Pin_a1, a2 Pin_a2, a3 Pin_a3, a4 Pin_a4, a5 Pin_a5, a6 Pin_a6, a7 Pin_a7, a8 Pin_a8, a9 Pin_a9, a10 Pin_a10, a11 Pin_a11, a12 Pin_a12, a13 Pin_a13, a14 Pin_a14, a15 Pin_a15, a16 Pin_a16, e1 Pin_e1, e2 Pin_e2, e3 Pin_e3, e4 Pin_e4, e5 Pin_e5, e6 Pin_e6, e7 Pin_e7, e8 Pin_e8, e9 Pin_e9, e10 Pin_e10, e11 Pin_e11, e12 Pin_e12, e13 Pin_e13, e14 Pin_e14, e15 Pin_e15, e16 Pin_e16

## DIN41612_02x16_AE_EvenPins
designator *  value DIN41612_02x16_AE_EvenPins  Reference: J
DIN41612 connector, double row (AE) even pins only, 02x16, script generated (kicad-library-utils/schlib/autogen/connector/); ki_fp_filters: DIN41612*2x*; Datasheet: ~; Description_: DIN41612 connector, double row (AE) even pins only, 02x16, script generated (kicad-library-utils/schlib/autogen/connector/); ki_keywords: connector
pins: a2 Pin_a2, a4 Pin_a4, a6 Pin_a6, a8 Pin_a8, a10 Pin_a10, a12 Pin_a12, a14 Pin_a14, a16 Pin_a16, a18 Pin_a18, a20 Pin_a20, a22 Pin_a22, a24 Pin_a24, a26 Pin_a26, a28 Pin_a28, a30 Pin_a30, a32 Pin_a32, e2 Pin_e2, e4 Pin_e4, e6 Pin_e6, e8 Pin_e8, e10 Pin_e10, e12 Pin_e12, e14 Pin_e14, e16 Pin_e16, e18 Pin_e18, e20 Pin_e20, e22 Pin_e22, e24 Pin_e24, e26 Pin_e26, e28 Pin_e28, e30 Pin_e30, e32 Pin_e32

## DIN41612_02x16_ZB
designator *  value DIN41612_02x16_ZB  Reference: J
DIN41612 connector, double row (ZB), 02x16, script generated (kicad-library-utils/schlib/autogen/connector/); ki_fp_filters: DIN41612*2x*; Datasheet: ~; Description_: DIN41612 connector, double row (ZB), 02x16, script generated (kicad-library-utils/schlib/autogen/connector/); ki_keywords: connector
pins: b1 Pin_b1, b2 Pin_b2, b3 Pin_b3, b4 Pin_b4, b5 Pin_b5, b6 Pin_b6, b7 Pin_b7, b8 Pin_b8, b9 Pin_b9, b10 Pin_b10, b11 Pin_b11, b12 Pin_b12, b13 Pin_b13, b14 Pin_b14, b15 Pin_b15, b16 Pin_b16, z1 Pin_z1, z2 Pin_z2, z3 Pin_z3, z4 Pin_z4, z5 Pin_z5, z6 Pin_z6, z7 Pin_z7, z8 Pin_z8, z9 Pin_z9, z10 Pin_z10, z11 Pin_z11, z12 Pin_z12, z13 Pin_z13, z14 Pin_z14, z15 Pin_z15, z16 Pin_z16

## DIN41612_02x16_ZB_EvenPins
designator *  value DIN41612_02x16_ZB_EvenPins  Reference: J
DIN41612 connector, double row (ZB) even pins only, 02x16, script generated (kicad-library-utils/schlib/autogen/connector/); ki_fp_filters: DIN41612*2x*; Datasheet: ~; Description_: DIN41612 connector, double row (ZB) even pins only, 02x16, script generated (kicad-library-utils/schlib/autogen/connector/); ki_keywords: connector
pins: b2 Pin_b2, b4 Pin_b4, b6 Pin_b6, b8 Pin_b8, b10 Pin_b10, b12 Pin_b12, b14 Pin_b14, b16 Pin_b16, b18 Pin_b18, b20 Pin_b20, b22 Pin_b22, b24 Pin_b24, b26 Pin_b26, b28 Pin_b28, b30 Pin_b30, b32 Pin_b32, z2 Pin_z2, z4 Pin_z4, z6 Pin_z6, z8 Pin_z8, z10 Pin_z10, z12 Pin_z12, z14 Pin_z14, z16 Pin_z16, z18 Pin_z18, z20 Pin_z20, z22 Pin_z22, z24 Pin_z24, z26 Pin_z26, z28 Pin_z28, z30 Pin_z30, z32 Pin_z32

## DIN41612_02x32_AB
designator *  value DIN41612_02x32_AB  Reference: J
DIN41612 connector, double row (AB), 02x32, script generated (kicad-library-utils/schlib/autogen/connector/); ki_fp_filters: DIN41612*2x*; Datasheet: ~; Description_: DIN41612 connector, double row (AB), 02x32, script generated (kicad-library-utils/schlib/autogen/connector/); ki_keywords: connector
pins: a1 Pin_a1, a2 Pin_a2, a3 Pin_a3, a4 Pin_a4, a5 Pin_a5, a6 Pin_a6, a7 Pin_a7, a8 Pin_a8, a9 Pin_a9, a10 Pin_a10, a11 Pin_a11, a12 Pin_a12, a13 Pin_a13, a14 Pin_a14, a15 Pin_a15, a16 Pin_a16, a17 Pin_a17, a18 Pin_a18, a19 Pin_a19, a20 Pin_a20, a21 Pin_a21, a22 Pin_a22, a23 Pin_a23, a24 Pin_a24, a25 Pin_a25, a26 Pin_a26, a27 Pin_a27, a28 Pin_a28, a29 Pin_a29, a30 Pin_a30, a31 Pin_a31, a32 Pin_a32, b1 Pin_b1, b2 Pin_b2, b3 Pin_b3, b4 Pin_b4, b5 Pin_b5, b6 Pin_b6, b7 Pin_b7, b8 Pin_b8, b9 Pin_b9, b10 Pin_b10, b11 Pin_b11, b12 Pin_b12, b13 Pin_b13, b14 Pin_b14, b15 Pin_b15, b16 Pin_b16, b17 Pin_b17, b18 Pin_b18, b19 Pin_b19, b20 Pin_b20, b21 Pin_b21, b22 Pin_b22, b23 Pin_b23, b24 Pin_b24, b25 Pin_b25, b26 Pin_b26, b27 Pin_b27, b28 Pin_b28, b29 Pin_b29, b30 Pin_b30, b31 Pin_b31, b32 Pin_b32

## DIN41612_02x32_AC
designator *  value DIN41612_02x32_AC  Reference: J
DIN41612 connector, double row (AC), 02x32, script generated (kicad-library-utils/schlib/autogen/connector/); ki_fp_filters: DIN41612*2x*; Datasheet: ~; Description_: DIN41612 connector, double row (AC), 02x32, script generated (kicad-library-utils/schlib/autogen/connector/); ki_keywords: connector
pins: a1 Pin_a1, a2 Pin_a2, a3 Pin_a3, a4 Pin_a4, a5 Pin_a5, a6 Pin_a6, a7 Pin_a7, a8 Pin_a8, a9 Pin_a9, a10 Pin_a10, a11 Pin_a11, a12 Pin_a12, a13 Pin_a13, a14 Pin_a14, a15 Pin_a15, a16 Pin_a16, a17 Pin_a17, a18 Pin_a18, a19 Pin_a19, a20 Pin_a20, a21 Pin_a21, a22 Pin_a22, a23 Pin_a23, a24 Pin_a24, a25 Pin_a25, a26 Pin_a26, a27 Pin_a27, a28 Pin_a28, a29 Pin_a29, a30 Pin_a30, a31 Pin_a31, a32 Pin_a32, c1 Pin_c1, c2 Pin_c2, c3 Pin_c3, c4 Pin_c4, c5 Pin_c5, c6 Pin_c6, c7 Pin_c7, c8 Pin_c8, c9 Pin_c9, c10 Pin_c10, c11 Pin_c11, c12 Pin_c12, c13 Pin_c13, c14 Pin_c14, c15 Pin_c15, c16 Pin_c16, c17 Pin_c17, c18 Pin_c18, c19 Pin_c19, c20 Pin_c20, c21 Pin_c21, c22 Pin_c22, c23 Pin_c23, c24 Pin_c24, c25 Pin_c25, c26 Pin_c26, c27 Pin_c27, c28 Pin_c28, c29 Pin_c29, c30 Pin_c30, c31 Pin_c31, c32 Pin_c32

## DIN41612_02x32_AE
designator *  value DIN41612_02x32_AE  Reference: J
DIN41612 connector, double row (AE), 02x32, script generated (kicad-library-utils/schlib/autogen/connector/); ki_fp_filters: DIN41612*2x*; Datasheet: ~; Description_: DIN41612 connector, double row (AE), 02x32, script generated (kicad-library-utils/schlib/autogen/connector/); ki_keywords: connector
pins: a1 Pin_a1, a2 Pin_a2, a3 Pin_a3, a4 Pin_a4, a5 Pin_a5, a6 Pin_a6, a7 Pin_a7, a8 Pin_a8, a9 Pin_a9, a10 Pin_a10, a11 Pin_a11, a12 Pin_a12, a13 Pin_a13, a14 Pin_a14, a15 Pin_a15, a16 Pin_a16, a17 Pin_a17, a18 Pin_a18, a19 Pin_a19, a20 Pin_a20, a21 Pin_a21, a22 Pin_a22, a23 Pin_a23, a24 Pin_a24, a25 Pin_a25, a26 Pin_a26, a27 Pin_a27, a28 Pin_a28, a29 Pin_a29, a30 Pin_a30, a31 Pin_a31, a32 Pin_a32, e1 Pin_e1, e2 Pin_e2, e3 Pin_e3, e4 Pin_e4, e5 Pin_e5, e6 Pin_e6, e7 Pin_e7, e8 Pin_e8, e9 Pin_e9, e10 Pin_e10, e11 Pin_e11, e12 Pin_e12, e13 Pin_e13, e14 Pin_e14, e15 Pin_e15, e16 Pin_e16, e17 Pin_e17, e18 Pin_e18, e19 Pin_e19, e20 Pin_e20, e21 Pin_e21, e22 Pin_e22, e23 Pin_e23, e24 Pin_e24, e25 Pin_e25, e26 Pin_e26, e27 Pin_e27, e28 Pin_e28, e29 Pin_e29, e30 Pin_e30, e31 Pin_e31, e32 Pin_e32

## DIN41612_02x32_ZB
designator *  value DIN41612_02x32_ZB  Reference: J
DIN41612 connector, double row (ZB), 02x32, script generated (kicad-library-utils/schlib/autogen/connector/); ki_fp_filters: DIN41612*2x*; Datasheet: ~; Description_: DIN41612 connector, double row (ZB), 02x32, script generated (kicad-library-utils/schlib/autogen/connector/); ki_keywords: connector
pins: b1 Pin_b1, b2 Pin_b2, b3 Pin_b3, b4 Pin_b4, b5 Pin_b5, b6 Pin_b6, b7 Pin_b7, b8 Pin_b8, b9 Pin_b9, b10 Pin_b10, b11 Pin_b11, b12 Pin_b12, b13 Pin_b13, b14 Pin_b14, b15 Pin_b15, b16 Pin_b16, b17 Pin_b17, b18 Pin_b18, b19 Pin_b19, b20 Pin_b20, b21 Pin_b21, b22 Pin_b22, b23 Pin_b23, b24 Pin_b24, b25 Pin_b25, b26 Pin_b26, b27 Pin_b27, b28 Pin_b28, b29 Pin_b29, b30 Pin_b30, b31 Pin_b31, b32 Pin_b32, z1 Pin_z1, z2 Pin_z2, z3 Pin_z3, z4 Pin_z4, z5 Pin_z5, z6 Pin_z6, z7 Pin_z7, z8 Pin_z8, z9 Pin_z9, z10 Pin_z10, z11 Pin_z11, z12 Pin_z12, z13 Pin_z13, z14 Pin_z14, z15 Pin_z15, z16 Pin_z16, z17 Pin_z17, z18 Pin_z18, z19 Pin_z19, z20 Pin_z20, z21 Pin_z21, z22 Pin_z22, z23 Pin_z23, z24 Pin_z24, z25 Pin_z25, z26 Pin_z26, z27 Pin_z27, z28 Pin_z28, z29 Pin_z29, z30 Pin_z30, z31 Pin_z31, z32 Pin_z32

## DIN41612_03x32_C_Split
designator *  value DIN41612_03x32_C_Split  Reference: J
DIN41612 connector, triple row (C), 03x32, split symbol; ki_fp_filters: DIN41612*3x*; Datasheet: ~; Description_: DIN41612 connector, triple row (C), 03x32, split symbol; ki_keywords: connector
part A pins: a1 Pin_a1, a2 Pin_a2, a3 Pin_a3, a4 Pin_a4, a5 Pin_a5, a6 Pin_a6, a7 Pin_a7, a8 Pin_a8, a9 Pin_a9, a10 Pin_a10, a11 Pin_a11, a12 Pin_a12, a13 Pin_a13, a14 Pin_a14, a15 Pin_a15, a16 Pin_a16, a17 Pin_a17, a18 Pin_a18, a19 Pin_a19, a20 Pin_a20, a21 Pin_a21, a22 Pin_a22, a23 Pin_a23, a24 Pin_a24, a25 Pin_a25, a26 Pin_a26, a27 Pin_a27, a28 Pin_a28, a29 Pin_a29, a30 Pin_a30, a31 Pin_a31, a32 Pin_a32
part B pins: b1 Pin_b1, b2 Pin_b2, b3 Pin_b3, b4 Pin_b4, b5 Pin_b5, b6 Pin_b6, b7 Pin_b7, b8 Pin_b8, b9 Pin_b9, b10 Pin_b10, b11 Pin_b11, b12 Pin_b12, b13 Pin_b13, b14 Pin_b14, b15 Pin_b15, b16 Pin_b16, b17 Pin_b17, b18 Pin_b18, b19 Pin_b19, b20 Pin_b20, b21 Pin_b21, b22 Pin_b22, b23 Pin_b23, b24 Pin_b24, b25 Pin_b25, b26 Pin_b26, b27 Pin_b27, b28 Pin_b28, b29 Pin_b29, b30 Pin_b30, b31 Pin_b31, b32 Pin_b32
part C pins: c1 Pin_c1, c2 Pin_c2, c3 Pin_c3, c4 Pin_c4, c5 Pin_c5, c6 Pin_c6, c7 Pin_c7, c8 Pin_c8, c9 Pin_c9, c10 Pin_c10, c11 Pin_c11, c12 Pin_c12, c13 Pin_c13, c14 Pin_c14, c15 Pin_c15, c16 Pin_c16, c17 Pin_c17, c18 Pin_c18, c19 Pin_c19, c20 Pin_c20, c21 Pin_c21, c22 Pin_c22, c23 Pin_c23, c24 Pin_c24, c25 Pin_c25, c26 Pin_c26, c27 Pin_c27, c28 Pin_c28, c29 Pin_c29, c30 Pin_c30, c31 Pin_c31, c32 Pin_c32

## DIN-3
designator *  value DIN-3  Reference: J
3-pin DIN connector; ki_keywords: circular DIN connector; ki_fp_filters: DIN*; Datasheet: http://www.mouser.com/ds/2/18/40_c091_abd_e-75918.pdf; Description_: 3-pin DIN connector
pins: 1, 2, 3

## DIN-4
designator *  value DIN-4  Reference: J
4-pin DIN connector; ki_keywords: circular DIN connector; ki_fp_filters: DIN*; Datasheet: http://www.mouser.com/ds/2/18/40_c091_abd_e-75918.pdf; Description_: 4-pin DIN connector
pins: 1, 2, 3, 4

## DIN-5
designator *  value DIN-5  Reference: J
5-pin DIN connector; ki_keywords: circular DIN connector; ki_fp_filters: DIN*; Datasheet: http://www.mouser.com/ds/2/18/40_c091_abd_e-75918.pdf; Description_: 5-pin DIN connector
pins: 1, 2, 3, 4, 5

## DIN-5_180degree
designator *  value DIN-5_180degree  Reference: J
5-pin DIN connector (5-pin DIN-5 stereo); ki_keywords: circular DIN connector stereo audio; ki_fp_filters: DIN*; Datasheet: http://www.mouser.com/ds/2/18/40_c091_abd_e-75918.pdf; Description_: 5-pin DIN connector (5-pin DIN-5 stereo)
pins: 1, 2, 3, 4, 5

## DIN-6
designator *  value DIN-6  Reference: J
6-pin DIN connector; ki_keywords: circular DIN connector; ki_fp_filters: DIN*; Datasheet: http://www.mouser.com/ds/2/18/40_c091_abd_e-75918.pdf; Description_: 6-pin DIN connector
pins: 1, 2, 3, 4, 5, 6

## DIN-7
designator *  value DIN-7  Reference: J
7-pin DIN connector; ki_keywords: circular DIN connector; ki_fp_filters: DIN*; Datasheet: http://www.mouser.com/ds/2/18/40_c091_abd_e-75918.pdf; Description_: 7-pin DIN connector
pins: 1, 2, 3, 4, 5, 6, 7

## DIN-7_CenterPin7
designator *  value DIN-7_CenterPin7  Reference: J
7-pin DIN connector with pin 7 in center; ki_keywords: circular DIN connector; ki_fp_filters: DIN*; Datasheet: http://www.mouser.com/ds/2/18/40_c091_abd_e-75918.pdf; Description_: 7-pin DIN connector with pin 7 in center
pins: 1, 2, 3, 4, 5, 6, 7

## DIN-8
designator *  value DIN-8  Reference: J
8-pin DIN connector; ki_keywords: circular DIN connector; ki_fp_filters: DIN*; Datasheet: http://www.mouser.com/ds/2/18/40_c091_abd_e-75918.pdf; Description_: 8-pin DIN connector
pins: 1, 2, 3, 4, 5, 6, 7, 8

## DVI-D_Dual_Link
designator *  value DVI-D_Dual_Link  Reference: J
DVI-D dual link connector; ki_keywords: dvi digital visual interface; ki_fp_filters: DVI-D*; Datasheet: https://www.molex.com/content/dam/molex/molex-dot-com/products/automated/en-us/salesdrawingpdf/743/74320/743204004_sd.pdf?inline; Description_: DVI-D dual link connector
pins: 1 D2-, 2 D2+, 3 D2/4S, 4 D4-, 5 D4+, 6 DDCCL, 7 DDCIO, 8 NC, 9 D1-, 10 D1+, 11 D1/3S, 12 D3-, 13 D3+, 14 +5V, 15 GND, 16 HPD, 17 D0-, 18 D0+, 19 D0/5S, 20 D5-, 21 D5+, 22 CKS, 23 CK+, 24 CK-, SH
text: DVI-D; Dual Link

## DVI-I_Dual_Link
designator *  value DVI-I_Dual_Link  Reference: J
DVI-I dual link connector; ki_keywords: dvi digital visual interface; ki_fp_filters: DVI-I*; Datasheet: https://www.molex.com/content/dam/molex/molex-dot-com/products/automated/en-us/salesdrawingpdf/743/74320/743201004_sd.pdf?inline; Description_: DVI-I dual link connector
pins: 1 D2-, 2 D2+, 3 D2/4S, 4 D4-, 5 D4+, 6 DDCCL, 7 DDCIO, 8 VSYNC, 9 D1-, 10 D1+, 11 D1/3S, 12 D3-, 13 D3+, 14 +5V, 15 GND, 16 HPD, 17 D0-, 18 D0+, 19 D0/5S, 20 D5-, 21 D5+, 22 CKS, 23 CK+, 24 CK-, C1 Red, C2 Green, C3 Blue, C4 HSYNC, C5 GNDA, SH
text: DVI-I; Dual Link

## ExpressCard
designator *  value ExpressCard  Reference: J
ExpressCard connector; ki_keywords: expresscard pci express; ki_fp_filters: ExpressCard*; Datasheet: https://web.archive.org/web/20180809060653/http://www.usb.org/developers/expresscard/EC_specifications/ExpressCard_2_0_FINAL.pdf; Description_: ExpressCard connector
pins: 1 GND, 2 USBD-, 3 USBD+, 4 ~{{CPUSB}}, 5 ~{{USB3}}, 6 RESERVED, 7 SMBCLK, 8 SMDDATA, 9 1V5, 10 1V5, 11 ~{{WAKE}}, 12 3V3_AUX, 13 ~{{PERST}}, 14 3V3, 15 3V3, 16 ~{{CLKREQ}}, 17 ~{{CPPE}}, 18 REFCLK-, 19 REFCLK+, 20 GND, 21 PERn0/SSRX-, 22 PERp0/SSRX+, 23 GND, 24 PETn0/SSTX-, 25 PETp0/SSTX+, 26 GND

## HDMI_A
designator J?  value HDMI_A  (hidden comment: *)
HDMI type A connector; ki_keywords: hdmi conn; ki_fp_filters: HDMI*A*; Reference: J; Datasheet: https://en.wikipedia.org/wiki/HDMI; Description_: HDMI type A connector; DNP: *
footprint HDMI_A_Molex_208658-1001_Horizontal
pins: 1 D2+, 2 D2S, 3 D2-, 4 D1+, 5 D1S, 6 D1-, 7 D0+, 8 D0S, 9 D0-, 10 CK+, 11 CKS, 12 CK-, 13 CEC, 14 UTILITY, 15 SCL, 16 SDA, 17 GND, 18 +5V, 19 HPD, SH

## HDMI_A_1.4
designator *  value HDMI_A_1.4  Reference: J
HDMI 1.4+ type A connector; ki_keywords: hdmi conn; ki_fp_filters: HDMI*A*; Datasheet: https://en.wikipedia.org/wiki/HDMI; Description_: HDMI 1.4+ type A connector
pins: 1 D2+, 2 D2S, 3 D2-, 4 D1+, 5 D1S, 6 D1-, 7 D0+, 8 D0S, 9 D0-, 10 CK+, 11 CKS, 12 CK-, 13 CEC, 14 UTILITY/HEAC+, 15 SCL, 16 SDA, 17 GND, 18 +5V, 19 HPD/HEAC-, SH

## HDMI_B
designator *  value HDMI_B  Reference: J
HDMI type B connector; ki_keywords: hdmi conn; ki_fp_filters: HDMI*B*; Datasheet: http://pinouts.ru/Video/hdmi_pinout.shtml; Description_: HDMI type B connector
pins: 1 D2+, 2 D2S, 3 D2-, 4 D1+, 5 D1S, 6 D1-, 7 D0+, 8 D0S, 9 D0-, 10 CK+, 11 CKS, 12 CK-, 13 D5+, 14 D5S, 15 D5-, 16 D4+, 17 D4S, 18 D4-, 19 D3+, 20 D3S, 21 D3-, 22 CEC, 23 NC, 24 NC, 25 SCL, 26 SDA, 27 GND, 28 +5V, 29 HPD, SH

## HDMI_C_1.3
designator *  value HDMI_C_1.3  Reference: J
HDMI 1.3+ type C connector; ki_keywords: hdmi conn; ki_fp_filters: HDMI*C*; Datasheet: http://pinoutguide.com/PortableDevices/mini_hdmi_pinout.shtml; Description_: HDMI 1.3+ type C connector
pins: 1 D2S, 2 D2+, 3 D2-, 4 D1S, 5 D1+, 6 D1-, 7 D0S, 8 D0+, 9 D0-, 10 CKS, 11 CK+, 12 CK-, 13 GND, 14 CEC, 15 SCL, 16 SDA, 17 UTILITY, 18 +5V, 19 HPD, SH

## HDMI_C_1.4
designator *  value HDMI_C_1.4  Reference: J
HDMI 1.4+ type C connector; ki_keywords: hdmi conn; ki_fp_filters: HDMI*C*; Datasheet: http://pinoutguide.com/PortableDevices/mini_hdmi_pinout.shtml; Description_: HDMI 1.4+ type C connector
pins: 1 D2S, 2 D2+, 3 D2-, 4 D1S, 5 D1+, 6 D1-, 7 D0S, 8 D0+, 9 D0-, 10 CKS, 11 CK+, 12 CK-, 13 GND, 14 CEC, 15 SCL, 16 SDA, 17 UTILITY/HEAC+, 18 +5V, 19 HPD/HEAC-, SH

## HDMI_D_1.4
designator *  value HDMI_D_1.4  Reference: J
HDMI 1.4+ type D connector; ki_keywords: hdmi conn; ki_fp_filters: HDMI*D*; Datasheet: http://pinoutguide.com/PortableDevices/micro_hdmi_type_d_pinout.shtml; Description_: HDMI 1.4+ type D connector
pins: 1 HPD/HEAC-, 2 UTILITY/HEAC+, 3 D2+, 4 D2S, 5 D2-, 6 D1+, 7 D1S, 8 D1-, 9 D0+, 10 D0S, 11 D0-, 12 CK+, 13 CKS, 14 CK-, 15 CEC, 16 GND, 17 SCL, 18 SDA, 19 +5V, SH

## HDMI_E
designator *  value HDMI_E  Reference: J
HDMI type E connector; ki_keywords: hdmi conn; ki_fp_filters: HDMI*E*; Datasheet: https://www.hdmi.org/manufacturer/specification.aspx; Description_: HDMI type E connector
pins: 1 D2+, 2 D2S, 3 D2-, 4 D1+, 5 D1S, 6 D1-, 7 D0+, 8 D0S, 9 D0-, 10 CK+, 11 CKS, 12 CK-, 13 CEC, 14 UTILITY, 15 SCL, 16 SDA, 17 GND, 18 +5V, 19 HPD, SH

## IEC61076-2_M8_A-coding_01x03_Plug_Shielded
designator *  value IEC61076-2_M8_A-coding_01x03_Plug_Shielded  Reference: J
IEC 61076-2 3 ways shielded M8 A-coding plug connector; ki_fp_filters: *M8*03*; Description_: IEC 61076-2 3 ways shielded M8 A-coding plug connector; ki_keywords: M8
pins: 1, 3, 4, SH

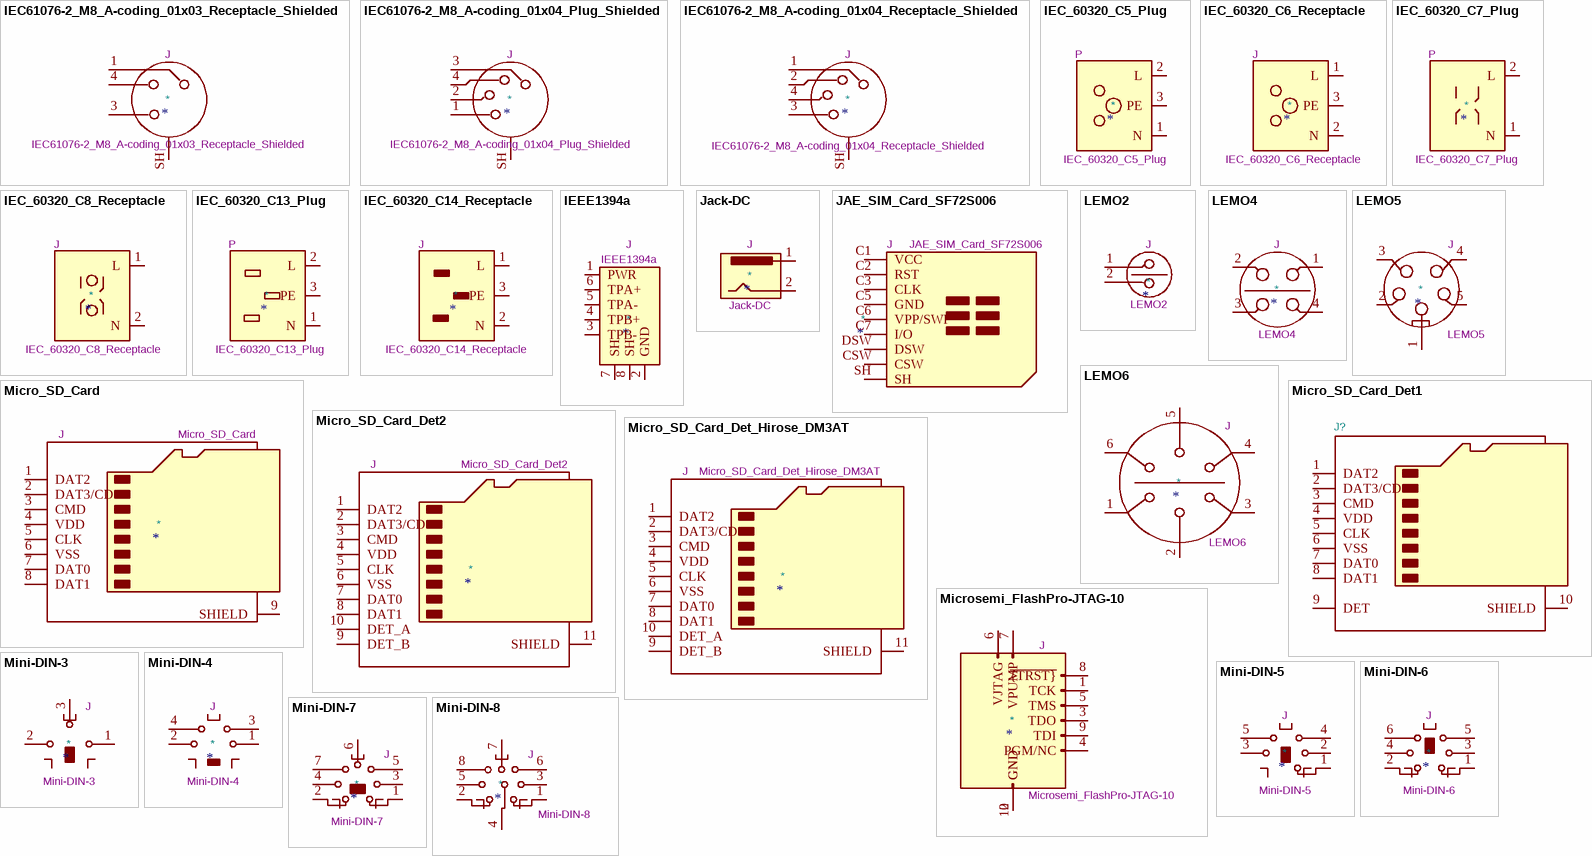
[diagram p11: symbols IEC61076-2_M8_A-coding_01x03_Receptacle_Shielded to Mini-DIN-8]

## IEC61076-2_M8_A-coding_01x03_Receptacle_Shielded
designator *  value IEC61076-2_M8_A-coding_01x03_Receptacle_Shielded  Reference: J
IEC 61076-2 3 ways shielded M8 A-coding receptacle connector; ki_fp_filters: *M8*03*; Description_: IEC 61076-2 3 ways shielded M8 A-coding receptacle connector; ki_keywords: M8
pins: 1, 3, 4, SH

## IEC61076-2_M8_A-coding_01x04_Plug_Shielded
designator *  value IEC61076-2_M8_A-coding_01x04_Plug_Shielded  Reference: J
IEC 61076-2 4 ways shielded M8 A-coding plug connector; ki_keywords: M8 connector; ki_fp_filters: *M8*04*; Description_: IEC 61076-2 4 ways shielded M8 A-coding plug connector
pins: 1, 2, 3, 4, SH

## IEC61076-2_M8_A-coding_01x04_Receptacle_Shielded
designator *  value IEC61076-2_M8_A-coding_01x04_Receptacle_Shielded  Reference: J
IEC 61076-2 4 ways shielded M8 A-coding receptacle connector; ki_keywords: M8 connector; ki_fp_filters: *M8*04*; Description_: IEC 61076-2 4 ways shielded M8 A-coding receptacle connector
pins: 1, 2, 3, 4, SH

## IEC_60320_C5_Plug
designator *  value IEC_60320_C5_Plug  Reference: P
C5 Receptacle, 2,5 A max; ki_keywords: C5 IEC 60320; ki_fp_filters: C*5*Plug*; Datasheet: ~; Description_: C5 Receptacle, 2,5 A max
pins: 1 N, 2 L, 3 PE

## IEC_60320_C6_Receptacle
designator *  value IEC_60320_C6_Receptacle  Reference: J
C6 plug, 2,5A max; ki_keywords: IEC 60320 C6; ki_fp_filters: C*6*Receptacle*; Datasheet: ~; Description_: C6 plug, 2,5A max
pins: 1 L, 2 N, 3 PE

## IEC_60320_C7_Plug
designator *  value IEC_60320_C7_Plug  Reference: P
C7 coupler, 2,5 A max; ki_keywords: C7 Plug  IEC 60320; ki_fp_filters: C*7*Plug*; Datasheet: ~; Description_: C7 coupler, 2,5 A max
pins: 1 N, 2 L

## IEC_60320_C8_Receptacle
designator *  value IEC_60320_C8_Receptacle  Reference: J
C8 coupler, 2,5 A max; ki_keywords: C8 Receptacle  IEC 60320; ki_fp_filters: C*8*Receptacle*; Datasheet: ~; Description_: C8 coupler, 2,5 A max
pins: 1 L, 2 N

## IEC_60320_C13_Plug
designator *  value IEC_60320_C13_Plug  Reference: P
C13 Plug, 10A max; ki_keywords: Receptacle C13 IEC320; ki_fp_filters: C*13*Plug*; Datasheet: ~; Description_: C13 Plug, 10A max
pins: 1 N, 2 L, 3 PE

## IEC_60320_C14_Receptacle
designator *  value IEC_60320_C14_Receptacle  Reference: J
C14 Plug, 10A max; ki_keywords: Plug C14 IEC320; ki_fp_filters: C*14*Receptacle*; Datasheet: ~; Description_: C14 Plug, 10A max
pins: 1 L, 2 N, 3 PE

## IEEE1394a
designator *  value IEEE1394a  Reference: J
FireWire/IEEE1394a 6-pin connector; ki_keywords: connector IEEE1394a FireWire; Datasheet: ~; Description_: FireWire/IEEE1394a 6-pin connector
pins: 1 PWR, 2 GND, 3 TPB-, 4 TPB+, 5 TPA-, 6 TPA+, 7 SH, 8 SH

## Jack-DC
designator *  value Jack-DC  Reference: J
DC Barrel Jack; ki_keywords: DC power barrel jack connector; ki_fp_filters: BarrelJack*; Datasheet: ~; Description_: DC Barrel Jack
pins: 1, 2

## JAE_SIM_Card_SF72S006
designator *  value JAE_SIM_Card_SF72S006  Reference: J
Nano-SIM Card (4FF) connector with Detect Switch; ki_keywords: SIM card UICC 4FF; ki_fp_filters: JAE*SIM*Card*SF72S006*; Footprint: Connector_JAE:JAE_SIM_Card_SF72S006; Datasheet: https://www.jae.com/direct/topics/topics_file_download/topics_id=68892&ext_no=06&index=0&_lang=en&v=202003111511468456809; Description_: Nano-SIM Card (4FF) connector with Detect Switch
pins: C1 VCC, C2 RST, C3 CLK, C5 GND, C6 VPP/SWP, C7 I/O, CSW, DSW, SH

## LEMO2
designator *  value LEMO2  Reference: J
2-pin LEMO connector; Datasheet: ~; Description_: 2-pin LEMO connector; ki_keywords: LEMO connector
pins: 1, 2

## LEMO4
designator *  value LEMO4  Reference: J
4-pin LEMO connector; Datasheet: ~; Description_: 4-pin LEMO connector; ki_keywords: LEMO connector
pins: 1, 2, 3, 4

## LEMO5
designator *  value LEMO5  Reference: J
5-pin LEMO connector; Datasheet: ~; Description_: 5-pin LEMO connector; ki_keywords: LEMO connector
pins: 1, 2, 3, 4, 5

## LEMO6
designator *  value LEMO6  Reference: J
6-pin LEMO connector; Datasheet: ~; Description_: 6-pin LEMO connector; ki_keywords: LEMO connector
pins: 1, 2, 3, 4, 5, 6

## Micro_SD_Card
designator *  value Micro_SD_Card  Reference: J
Micro SD Card Socket; ki_keywords: connector SD microsd; ki_fp_filters: microSD*; Datasheet: https://www.we-online.com/components/products/datasheet/693072010801.pdf; Description_: Micro SD Card Socket
pins: 1 DAT2, 2 DAT3/CD, 3 CMD, 4 VDD, 5 CLK, 6 VSS, 7 DAT0, 8 DAT1, 9 SHIELD

## Micro_SD_Card_Det1
designator J?  (value not drawn)
Micro SD Card Socket with one card detection pin; ki_keywords: connector SD microsd; ki_fp_filters: microSD*; Reference: J; Datasheet: https://datasheet.lcsc.com/lcsc/2110151630_XKB-Connectivity-XKTF-015-N_C381082.pdf; Description_: Micro SD Card Socket with one card detection pin; DNP: *
footprint microSD_HC_Molex_104031-0811
footprint CUI_MSD-1-A
footprint CUI_MSD-4-A
pins: 1 DAT2, 2 DAT3/CD, 3 CMD, 4 VDD, 5 CLK, 6 VSS, 7 DAT0, 8 DAT1, 9 DET, 10 SHIELD

## Micro_SD_Card_Det2
designator *  value Micro_SD_Card_Det2  Reference: J
Micro SD Card Socket with two card detection pins; ki_keywords: connector SD microsd; ki_fp_filters: microSD*; Datasheet: https://www.hirose.com/en/product/document?clcode=&productname=&series=DM3&documenttype=Catalog&lang=en&documentid=D49662_en; Description_: Micro SD Card Socket with two card detection pins
pins: 1 DAT2, 2 DAT3/CD, 3 CMD, 4 VDD, 5 CLK, 6 VSS, 7 DAT0, 8 DAT1, 9 DET_B, 10 DET_A, 11 SHIELD

## Micro_SD_Card_Det_Hirose_DM3AT
designator *  value Micro_SD_Card_Det_Hirose_DM3AT  Reference: J
Micro SD Card Socket with card detection pins; ki_keywords: connector SD microsd; ki_fp_filters: microSD*; Datasheet: https://www.hirose.com/product/en/download_file/key_name/DM3/category/Catalog/doc_file_id/49662/?file_category_id=4&item_id=195&is_series=1; Description_: Micro SD Card Socket with card detection pins
pins: 1 DAT2, 2 DAT3/CD, 3 CMD, 4 VDD, 5 CLK, 6 VSS, 7 DAT0, 8 DAT1, 9 DET_B, 10 DET_A, 11 SHIELD

## Microsemi_FlashPro-JTAG-10
designator *  value Microsemi_FlashPro-JTAG-10  Reference: J
ACTEL FLASH PRO 3/4, JTAG, IDC10 Pinheader Connector; ki_keywords: JTAG IDC10 Pinheader Pins Connector; ki_fp_filters: IDC?Header*2x05* Pin?Header*2x05*; Datasheet: https://www.microsemi.com/document-portal/doc_view/129973-lpf-ac386-an; Description_: ACTEL FLASH PRO 3/4, JTAG, IDC10 Pinheader Connector
pins: 1 TCK, 2 GND, 3 TDO, 4 PGM/NC, 5 TMS, 6 VJTAG, 7 VPUMP, 8 ~{{TRST}}, 9 TDI, 10 GND